# EAGLE library part TAH_FOOTPRINT_WITHOUT_ICSP_VER1.0 (library TAH)
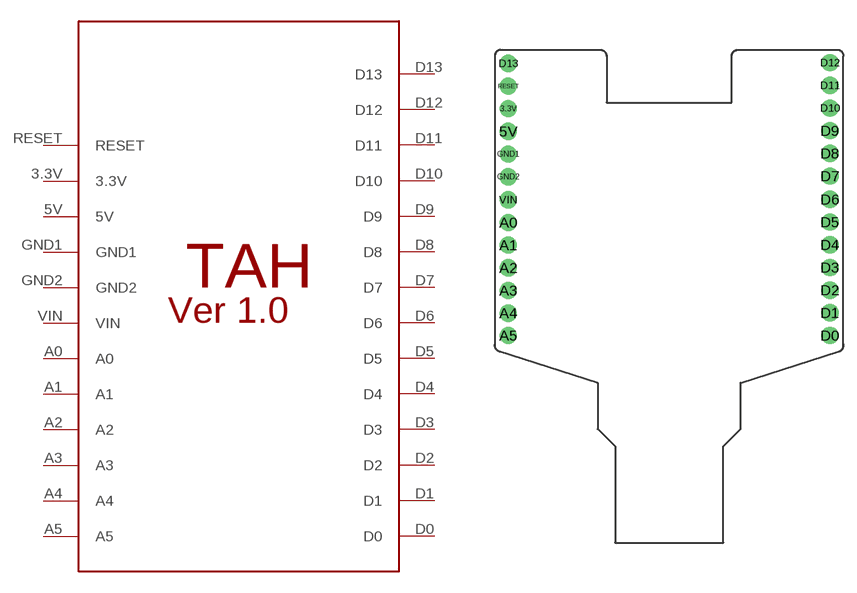
[diagram p3: symbol with the pads of TAH_FOOTPRINT_WITHOUT_ICSP; footprint TAH_FOOTPRINT_WITHOUT_ICSP]

Designator prefix -

## TAH_FOOTPRINT_WITHOUT_ICSP_VER1.0  [TAH_FOOTPRINT_WITHOUT_ICSP]
3.3V  3.3V
5V  5V
A0  A0
A1  A1
A2  A2
A3  A3
A4  A4
A5  A5
D0  D0
D1  D1
D2  D2
D3  D3
D4  D4
D5  D5
D6  D6
D7  D7
D8  D8
D9  D9
D10  D10
D11  D11
D12  D12
D13  D13
GND1  GND1
GND2  GND2
RESET  RESET
VIN  VIN

## Footprint TAH_FOOTPRINT_WITHOUT_ICSP (pad centres in mm)
drill 1 pad 1.93: 3.3V 1.5,48.8; 5V 1.5,46.26; A0 1.5,36.06; A1 1.5,33.52; A2 1.5,30.98; A3 1.5,28.44; A4 1.5,25.9; A5 1.5,23.4; D0 37.5,23.4; D1 37.5,25.94; D2 37.5,28.48; D3 37.5,31.02; D4 37.5,33.56; D5 37.5,36.1; D6 37.5,38.64; D7 37.5,41.26; D8 37.5,43.8; D9 37.5,46.34; D10 37.5,48.88; D11 37.5,51.42; D12 37.5,53.96; D13 1.5,53.88; GND1 1.5,43.72; GND2 1.5,41.18; RESET 1.5,51.34; VIN 1.5,38.6